# Altium footprint library SM_QFN-48_7x7.PcbLib: 1 footprints
Each footprint in its own frame and in the unit in brackets; x right, y up, seen from the top. Pads: shape width x height; smd on the part's side, far side on the other; paste and mask are expansions set on the pad; w line width, h text height; cw(c..) or ccw(c..) is an arc to the next point about the centre after c.
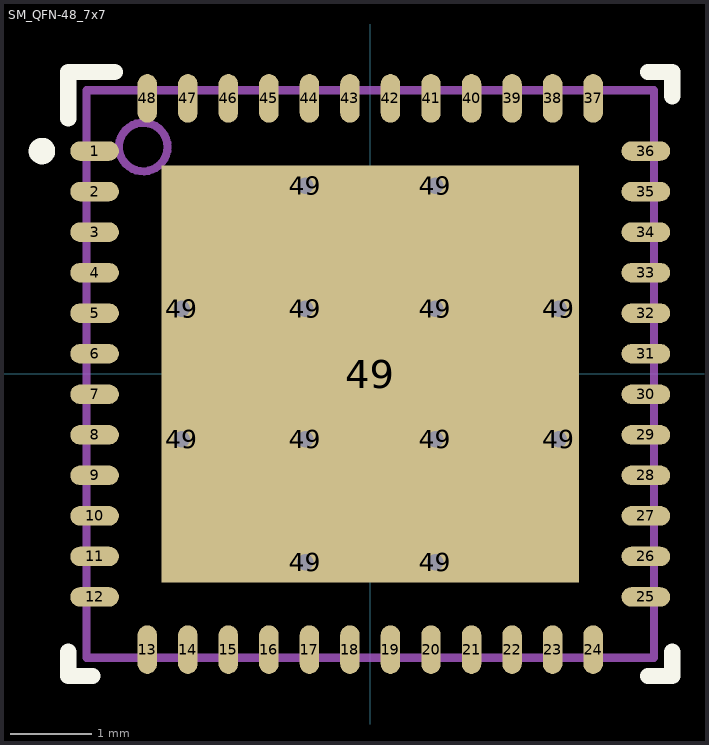
[diagram p0: the footprint, top view; thin cyan lines are the x and y axes]

## SM_QFN-48_7x7 [mm]
pads (61):
  oval 0.6x0.24 smd paste+0 mask+0.051: 1(-3.4,2.75) 2(-3.4,2.25) 3(-3.4,1.75) 4(-3.4,1.25) 5(-3.4,0.75) 6(-3.4,0.25) 7(-3.4,-0.25) 8(-3.4,-0.75) 9(-3.4,-1.25) 10(-3.4,-1.75) 11(-3.4,-2.25) 12(-3.4,-2.75) 25(3.4,-2.75) 26(3.4,-2.25) 27(3.4,-1.75) 28(3.4,-1.25) 29(3.4,-0.75) 30(3.4,-0.25) 31(3.4,0.25) 32(3.4,0.75) 33(3.4,1.25) 34(3.4,1.75) 35(3.4,2.25) 36(3.4,2.75)
  oval 0.24x0.6 smd paste+0 mask+0.051: 13(-2.75,-3.4) 14(-2.25,-3.4) 15(-1.75,-3.4) 16(-1.25,-3.4) 17(-0.75,-3.4) 18(-0.25,-3.4) 19(0.25,-3.4) 20(0.75,-3.4) 21(1.25,-3.4) 22(1.75,-3.4) 23(2.25,-3.4) 24(2.75,-3.4) 37(2.75,3.4) 38(2.25,3.4) 39(1.75,3.4) 40(1.25,3.4) 41(0.75,3.4) 42(0.25,3.4) 43(-0.25,3.4) 44(-0.75,3.4) 45(-1.25,3.4) 46(-1.75,3.4) 47(-2.25,3.4) 48(-2.75,3.4)
  round 0.5 hole 0.203 mask+0.051: 49(-2.325,-0.804) 49(-2.325,0.803) 49(-0.804,-2.325) 49(-0.804,-0.804) 49(-0.804,0.803) 49(-0.804,2.325) 49(0.803,-2.325) 49(0.803,-0.804) 49(0.803,0.803) 49(0.803,2.325) 49(2.325,-0.804) 49(2.325,0.803)
  rect 5.15x5.15 smd paste-2.562 mask+0.051: 49(0,0)
Top Overlay:
  circle w0.178: c-4.05,2.75 r0.075
  lines w0.2: -3.725,-3.425 -3.725,-3.725 -3.425,-3.725 ; -3.725,3.15 -3.725,3.725 -3.15,3.725 ; 3.425,-3.725 3.725,-3.725 3.725,-3.425 ; 3.425,3.725 3.725,3.725 3.725,3.425
Top Paste:
  region: -0.704,0.703 -0.704,-0.704 0.703,-0.704 0.703,0.703
  region: 0.903,0.703 0.903,-0.704 2.31,-0.704 2.31,0.703
  region: -0.904,-0.704 -0.904,0.703 -2.311,0.703 -2.311,-0.704
  region: -0.904,0.903 -0.904,2.31 -2.311,2.31 -2.311,0.903
  region: 0.903,2.31 0.903,0.903 2.31,0.903 2.31,2.31
  region: -0.704,2.31 -0.704,0.903 0.703,0.903 0.703,2.31
  region: -0.704,-0.904 -0.704,-2.311 0.703,-2.311 0.703,-0.904
  region: 0.903,-0.904 0.903,-2.311 2.31,-2.311 2.31,-0.904
  region: -0.904,-2.311 -0.904,-0.904 -2.311,-0.904 -2.311,-2.311
Mechanical 5:
  circle w0.1: c-2.8,2.8 r0.3
  lines w0.1: -3.5,-3.5 3.5,-3.5 3.5,3.5 -3.5,3.5 -3.5,-3.5
3D body: height 1.01, standoff 0.5, extent -3.099,2.501 -2.5,3.1
3D body: height 1, standoff 0, extent -3.5,-3.5 3.5,3.5